# EAGLE library part TMUX1247DCKR (library TMUX1274lib)
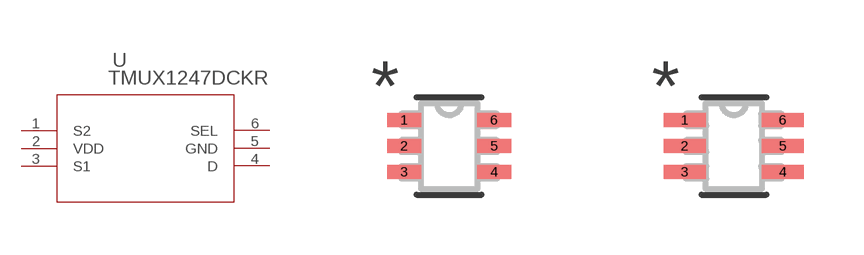
[diagram p0: symbol with the pads of SOT-SC70_DCK_6_TEX; footprints SOT-SC70_DCK_6_TEX, SOT-SC70_DCK_6_TEX-M]

Designator prefix U

## TMUX1247DCKR (COPYRIGHT: Copyright (C) 2022 Ultra Librarian. All rights reserved.; MANUFACTURER_PART_NUMBER: TMUX1247DCKR; MFR_NAME: Texas Instruments)  [SOT-SC70_DCK_6_TEX]
1  S2
2  VDD  pwr
3  S1
4  D
5  GND  pas
6  SEL  in

## TMUX1247DCKRSOT-SC70_DCK_6_TEX-M (COPYRIGHT: Copyright (C) 2022 Ultra Librarian. All rights reserved.; MANUFACTURER_PART_NUMBER: TMUX1247DCKR; MFR_NAME: Texas Instruments)  [SOT-SC70_DCK_6_TEX-M]
Pads as for SOT-SC70_DCK_6_TEX

## TMUX1247DCKRSOT-SC70_DCK_6_TEX-L (COPYRIGHT: Copyright (C) 2022 Ultra Librarian. All rights reserved.; MANUFACTURER_PART_NUMBER: TMUX1247DCKR; MFR_NAME: Texas Instruments)  [SOT-SC70_DCK_6_TEX-L]
Pads as for SOT-SC70_DCK_6_TEX

## Footprint SOT-SC70_DCK_6_TEX (pad centres in mm)
smd 0.851 x 0.356: 1 -1.124,0.65; 2 -1.124,0; 3 -1.124,-0.65; 4 1.124,-0.65; 5 1.124,0; 6 1.124,0.65

## Footprint SOT-SC70_DCK_6_TEX-M (pad centres in mm)
smd 1.054 x 0.356: 1 -1.226,0.65; 2 -1.226,0; 3 -1.226,-0.65; 4 1.226,-0.65; 5 1.226,0; 6 1.226,0.65

## Footprint SOT-SC70_DCK_6_TEX-L (pad centres in mm)
smd 0.648 x 0.305: 1 -1.022,0.65; 2 -1.022,0; 3 -1.022,-0.65; 4 1.022,-0.65; 5 1.022,0; 6 1.022,0.65